# Altium footprint library BZT52C22S.PcbLib: 1 footprints
Each footprint in its own frame and in the unit in brackets; x right, y up, seen from the top. Pads: shape width x height; smd on the part's side, far side on the other; paste and mask are expansions set on the pad; w line width, h text height; cw(c..) or ccw(c..) is an arc to the next point about the centre after c.
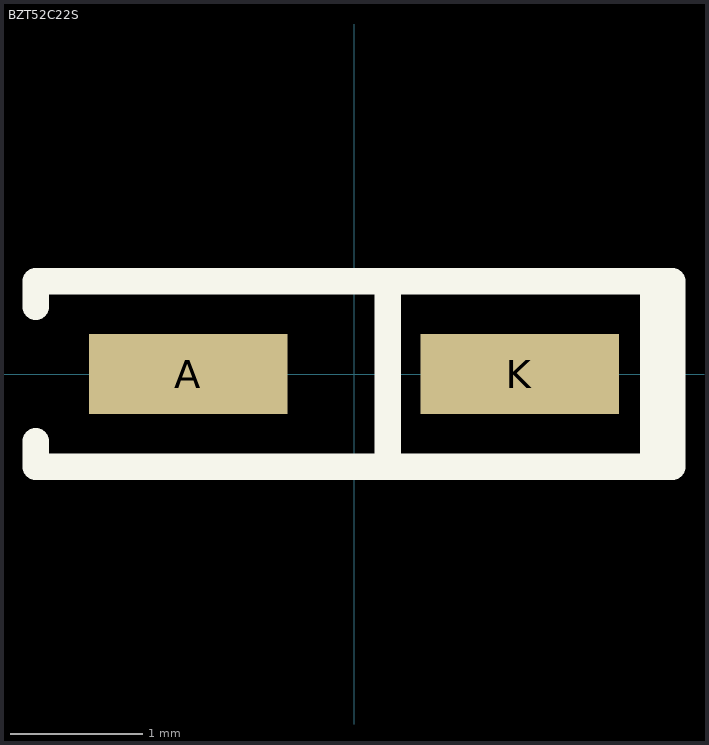
[diagram p0: the footprint, top view; thin cyan lines are the x and y axes]

## BZT52C22S [mm] "22V zener, MULTICOMP - BZT52C22S - DIODE, ZENER, 0.2W, SOD-323"
pads (2):
  rect 1.5x0.6 smd: A(-1.25,0) K(1.25,0)
Top Overlay:
  rectangle: 2.159,-0.7 2.4,0.7
  lines w0.2: -2.4,-0.508 -2.4,-0.7 2.4,-0.7 2.4,0.7 -2.4,0.7 -2.4,0.508 ; 0.254,-0.7 0.254,0.7